# Altium footprint library 47053-1000.PcbLib: 1 footprints
Each footprint in its own frame and in the unit in brackets; x right, y up, seen from the top. Pads: shape width x height; smd on the part's side, far side on the other; paste and mask are expansions set on the pad; w line width, h text height; cw(c..) or ccw(c..) is an arc to the next point about the centre after c.
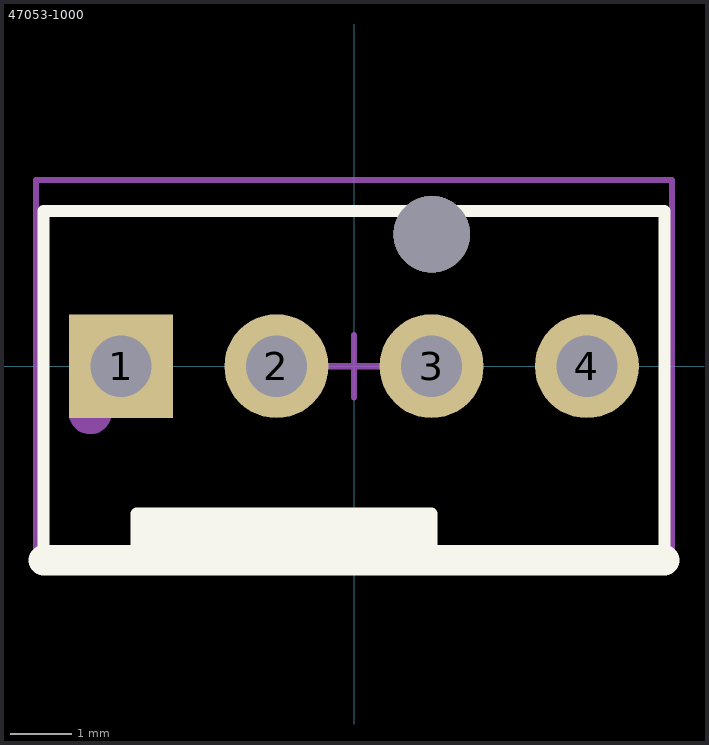
[diagram p0: the footprint, top view; thin cyan lines are the x and y axes]

## 47053-1000 [mm] "Connector; Header; 4 Position; Male"
pads (4):
  rect 1.7x1.7 hole 1: 1(-3.81,0)
  round 1.7 hole 1: 2(-1.27,0) 3(1.27,0) 4(3.81,0)
via 1.27,2.16 diameter 1.25 hole 1.25
Top Overlay:
  lines w0.2: -5.08,-3.302 5.08,-3.302 ; -5.08,-3.175 -5.08,2.54 5.08,2.54 5.08,-3.175 ; -3.56,-2.868 1.266,-2.868 ; -3.56,-2.571 1.266,-2.571 ; -3.556,-3.175 -3.556,-2.413 1.27,-2.413 1.27,-3.048 ; -3.556,-2.73 1.27,-2.73
  lines w0.5: -5.08,-3.175 5.08,-3.175
Top Assembly:
  circle w0.3: c-4.318,-0.762 r0.2
  lines w0.15: -5.18,-3.302 -5.18,2.54 5.08,2.54 5.08,-3.302 -5.18,-3.302
Top Courtyard:
  lines w0.1: -0.508,0 0.508,0 ; 0,-0.508 0,0.508 ; -5.207,-3.302 -5.207,3.048 5.207,3.048 5.207,-3.302 -5.207,-3.302
3D body "470531000.stp": height 10, standoff -3.5, extent -5.1,-3.3 5.1,2.54